# EAGLE library part SN74LVC1T45DCKR (library wedfestdress)
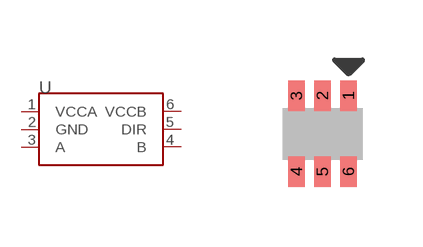
[diagram p2: symbol with the pads of SC-70-6_GENERIC; footprint SC-70-6_GENERIC]

Designator prefix U

## SN74LVC1T45DCKR (COST_X1: 0.58; COST_X100: 0.3699; COST_X500: 0.29056; DESCRIPTION: Level shifter, 1 channel, 5.5 V; DISPLAY: 5.5 V, Half Duplex; DISTRIBUTOR: Digikey; DIST_PART_NO: 296-16844-1-ND; MFG: Texas Instruments; MFG_PART_NO: SN74LVC1T45DCKR; PACKAGE: SC-70-6)  [SC-70-6_GENERIC]
1  VCCA
2  GND
3  A
4  B
5  DIR
6  VCCB

## Footprint SC-70-6_GENERIC (pad centres in mm)
smd 0.42 x 0.77: 1 0.65,0.95; 2 0,0.95; 3 -0.65,0.95; 4 -0.65,-0.95; 5 0,-0.95; 6 0.65,-0.95